# Altium schematic symbol library 22.6mm_FuseHolder_THT.SchLib: 1 symbol
Pins are listed as number, name and electrical type; pins without a type are passive.

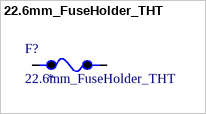
[diagram p0: symbol 22.6mm_FuseHolder_THT]

## 22.6mm_FuseHolder_THT
designator F?
LCSC: *
footprint 22.6mm_FuseHolder_THT
pins: 1, 2